# EAGLE library part FLE-120-01-XX-DV (library FLE-120-01-XX-DV)
DOUBLE ROW 0.050"X0.050" STRIP ASSEMBLY. Check prices <https://pricing.snapeda.com/parts/FLE-120-01-G-DV/Samtec/view-part?ref=eda>
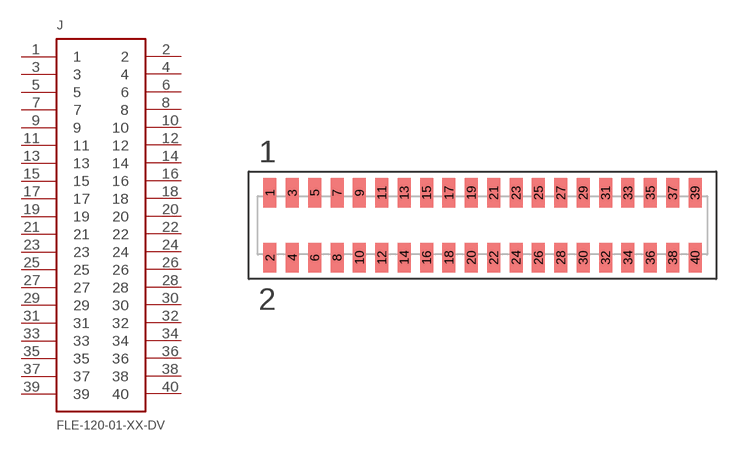
[diagram p0: symbol with the pads of FLE-120-01-XX-DV; footprint FLE-120-01-XX-DV]

Designator prefix J

## FLE-120-01-XX-DV (AVAILABILITY: Bad; DESCRIPTION: 40 Position Receptacle Connector Surface Mount; MF: Samtec; MP: FLE-120-01-G-DV; PACKAGE: None; PRICE: None; PURCHASE-URL: https://pricing.snapeda.com/search/part/FLE-120-01-G-DV/?ref=eda)  [FLE-120-01-XX-DV]
1  1
2  2
3  3
4  4
5  5
6  6
7  7
8  8
9  9
10  10
11  11
12  12
13  13
14  14
15  15
16  16
17  17
18  18
19  19
20  20
21  21
22  22
23  23
24  24
25  25
26  26
27  27
28  28
29  29
30  30
31  31
32  32
33  33
34  34
35  35
36  36
37  37
38  38
39  39
40  40

## Footprint FLE-120-01-XX-DV (pad centres in mm)
DOUBLE ROW 0.050"X0.050" STRIP ASSEMBLY.
smd 0.737 x 1.676: 1 -12.065,1.841; 2 -12.065,-1.841; 3 -10.795,1.841; 4 -10.795,-1.841; 5 -9.525,1.841; 6 -9.525,-1.841; 7 -8.255,1.841; 8 -8.255,-1.841; 9 -6.985,1.841; 10 -6.985,-1.841; 11 -5.715,1.841; 12 -5.715,-1.841; 13 -4.445,1.841; 14 -4.445,-1.841; 15 -3.175,1.841; 16 -3.175,-1.841; 17 -1.905,1.841; 18 -1.905,-1.841; 19 -0.635,1.841; 20 -0.635,-1.841; 21 0.635,1.841; 22 0.635,-1.841; 23 1.905,1.841; 24 1.905,-1.841; 25 3.175,1.841; 26 3.175,-1.841; 27 4.445,1.841; 28 4.445,-1.841; 29 5.715,1.841; 30 5.715,-1.841; 31 6.985,1.841; 32 6.985,-1.841; 33 8.255,1.841; 34 8.255,-1.841; 35 9.525,1.841; 36 9.525,-1.841; 37 10.795,1.841; 38 10.795,-1.841; 39 12.065,1.841; 40 12.065,-1.841